# Altium schematic symbol library Schlib1.SchLib: 4 symbols
Pins are listed as number, name and electrical type; pins without a type are passive.

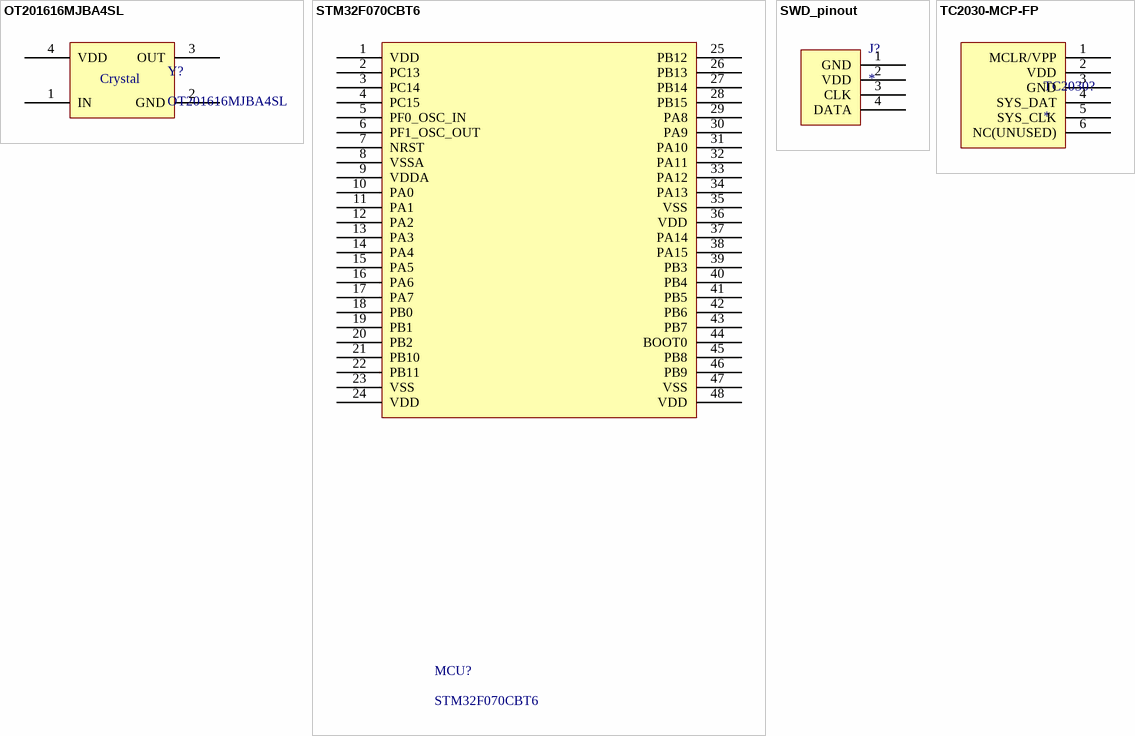
[diagram p0: symbols OT201616MJBA4SL to TC2030-MCP-FP]

## OT201616MJBA4SL
designator Y?
footprint OT201616MJBA4SL
pins: 1 IN, 2 GND, 3 OUT, 4 VDD
text: Crystal

## STM32F070CBT6
designator MCU?
footprint STM32F070CBT6 (TSQFP, 48-Leads, Body 7,00x7,00mm, Pitch 0,50mm, IPC Medium Density)
pins: 1 VDD, 2 PC13, 3 PC14, 4 PC15, 5 PF0_OSC_IN, 6 PF1_OSC_OUT, 7 NRST, 8 VSSA, 9 VDDA, 10 PA0, 11 PA1, 12 PA2, 13 PA3, 14 PA4, 15 PA5, 16 PA6, 17 PA7, 18 PB0, 19 PB1, 20 PB2, 21 PB10, 22 PB11, 23 VSS, 24 VDD, 25 PB12, 26 PB13, 27 PB14, 28 PB15, 29 PA8, 30 PA9, 31 PA10, 32 PA11, 33 PA12, 34 PA13, 35 VSS, 36 VDD, 37 PA14, 38 PA15, 39 PB3, 40 PB4, 41 PB5, 42 PB6, 43 PB7, 44 BOOT0, 45 PB8, 46 PB9, 47 VSS, 48 VDD

## SWD_pinout
designator J?
footprint SWD_pinout
pins: 1 GND, 2 VDD, 3 CLK, 4 DATA

## TC2030-MCP-FP
designator TC2030?
footprint TC2030-MCP-FP
pins: 1 MCLR/VPP, 2 VDD, 3 GND, 4 SYS_DAT, 5 SYS_CLK, 6 NC(UNUSED)